# EAGLE library part BL49SP (library bl49sp)
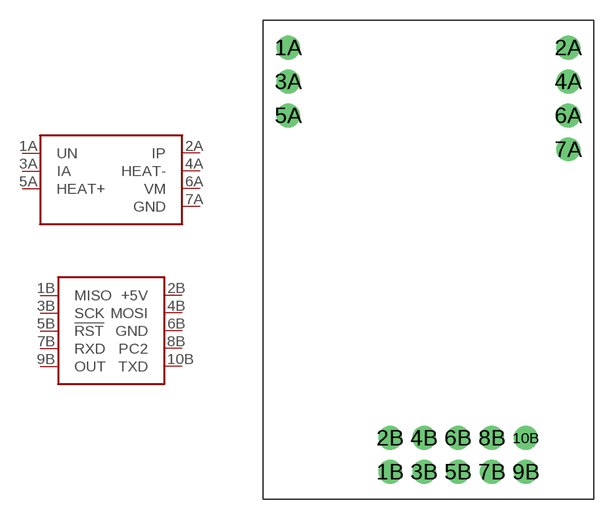
[diagram p0: symbol with the pads of BL49SP; footprint BL49SP]

Designator prefix -; gates G$1=BL49SP_BLS G$2=BL49SP_DME

## BL49SP  [BL49SP]
1A  G$1:UN
1B  G$2:MISO
2A  G$1:IP
2B  G$2:+5V
3A  G$1:IA
3B  G$2:SCK
4A  G$1:HEAT-
4B  G$2:MOSI
5A  G$1:HEAT+
5B  G$2:!RST
6A  G$1:VM
6B  G$2:GND
7A  G$1:GND
7B  G$2:RXD
8B  G$2:PC2
9B  G$2:OUT
10B  G$2:TXD

## Footprint BL49SP (pad centres in mm)
drill 1 pad 1.778: 1A 1.905,33.814; 1B 9.525,2.064; 2A 22.86,33.814; 2B 9.525,4.604; 3A 1.905,31.274; 3B 12.065,2.064; 4A 22.86,31.274; 4B 12.065,4.604; 5A 1.905,28.734; 5B 14.605,2.064; 6A 22.86,28.734; 6B 14.605,4.604; 7A 22.86,26.194; 7B 17.145,2.064; 8B 17.145,4.604; 9B 19.685,2.064; 10B 19.685,4.604